# Altium schematic symbol library MHI_Board.SCHLIB: 15 symbols
Pins are listed as number, name and electrical type; pins without a type are passive.

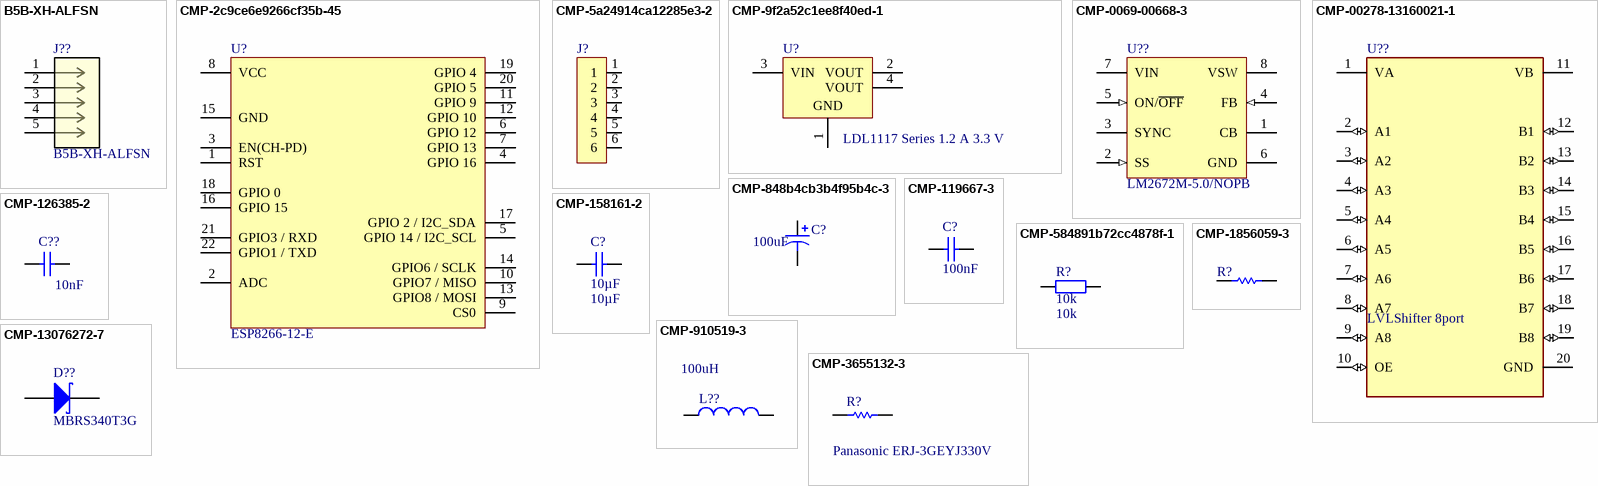
[diagram p0: symbols B5B-XH-ALFSN to CMP-13076272-7]

## B5B-XH-ALFSN
designator J??
No Description Available; Mfr_Name: JST; RefDes: RefDes; Type: Type
footprint CONN_B5B-XH-ALFSN_JST
footprint CONN_B5B-XH-ALFSN_JST
pins: 1, 2, 3, 4, 5

## CMP-2c9ce6e9266cf35b-45
designator U?, comment ESP8266-12-E
ESP8266 SMT MODULE; Manufacturer Part Number: 2491; Octopart URL: https://octopart.com/2491-adafruit+industries-65271392; OctopartID: f2f4381d21f22d33; Color: Black; Material: Nylon; RoHS: Compliant
footprint 2491 (Footprint - Adafruit Industries 2491)
pins: 1 RST, 2 ADC, 3 EN(CH-PD), 4 GPIO 16, 5 GPIO 14 / I2C_SCL, 6 GPIO 12, 7 GPIO 13, 8 VCC (power), 9 CS0, 10 GPIO7 / MISO, 11 GPIO 9, 12 GPIO 10, 13 GPIO8 / MOSI, 14 GPIO6 / SCLK, 15 GND, 16 GPIO 15, 17 GPIO 2 / I2C_SDA, 18 GPIO 0, 19 GPIO 4, 20 GPIO 5, 21 GPIO3 / RXD, 22 GPIO1 / TXD

## CMP-5a24914ca12285e3-2
designator J?, comment TE Connectivity / AMP 5-146280-6  (value not drawn)
AMPMODU 6 Position 2.54 mm Through Hole Single Row Straight Breakaway Header; Gender: Male; Lead-Free Status: Lead Free; Number of Contacts: 6; Pin Pitch: 2.54 mm; Lifecycle Status: Not Listed by Manufacturer; OctopartID: 5a24914ca12285e3; Color: Black; Number of Rows: 1; Contact Plating: Gold; Contact Material: Phosphor Bronze; Manufacturer Part Number: 5-146280-6; Octopart URL: http://octopart.com/5-146280-6-te+connectivity+%2F+amp-40033888; REACH SVHC Compliance: No SVHC; RoHS: Compliant; Number of Positions: 6; Mounting Style: Through Hole, Vertical
footprint PCB-inh0upq8uddmt7lk8pts-1 (Footprint - TE Connectivity / AMP 5-146280-6)
pins: 1, 2, 3, 4, 5, 6

## CMP-9f2a52c1ee8f40ed-1
designator U?, comment LDL1117 Series 1.2 A 3.3 V
High PSRR LDO Linear Voltage Regulator-SOT-223; Operating Temperature: -40.0 °C (min); Lifecycle Status: Not Listed by Manufacturer
footprint PCB-elchkyvpbzx92dsq0s9t-1 (Footprint - STMicroelectronics LDL1117S33R)
pins: 1 GND (power), 2 VOUT (power), 3 VIN (power), 4 VOUT (power)

## CMP-0069-00668-3
designator U??, comment LM2672M-5.0/NOPB
SIMPLE SWITCHER® Power Converter High Efficiency 1A Step-Down Voltage Regulator with Features, 8-pin Narrow SOIC, Pb-Free; Lead-Free Status: Lead Free; Number of Outputs: 1; Output Current: 1.0 A; Output Voltage: 5.0 V; Quiescent Current: 0.0025 A; Switching Frequency: 260000.0 Hz; Topology: Buck; Case/Package: SOIC; Lifecycle Status: Active; Mounting Style: Surface Mount; Number of Pins: 8; Number of Regulated Outputs: 1; Octopart Url: https://octopart.com/lm2672m-5.0%2Fnopb-texas+instruments-24813069; OctopartID: afaf67df14c47068; Packaging: Tube; RoHS: Compliant; Manufacturer Part Number: LM2672M-5.0/NOPB
footprint M08A_L (SOIC, 8-Leads, Body 4.9x3.9mm, Pitch 1.27mm, IPC High Density)
footprint M08A_N (SOIC, 8-Leads, Body 4.9x3.9mm, Pitch 1.27mm, IPC Medium Density)
footprint M08A_M (SOIC, 8-Leads, Body 4.9x3.9mm, Pitch 1.27mm, IPC Low Density)
pins: 1 CB, 2 SS (in), 3 SYNC, 4 FB (in), 5 ON/~{OFF} (in), 6 GND (power), 7 VIN (power), 8 VSW (power)

## CMP-00278-13160021-1
designator U??, comment LVLShifter 8port
LevelShifter, PDIP20; NexarPartId: 13160021; Manufacturer: ON Semiconductor / Fairchild; Manufacturer Part Number: MM74HC688N; Number of Gates: 8; Low Level Output Current: 5.2mA; Number of Circuits: 1; Turn-On Delay Time: 30ns; Propagation Delay: 21ns; Quiescent Current: 8µA; Number of Inputs: 2; Max Supply Voltage: 6V; Polarity: Inverting; Min Supply Voltage: 2V; Max Operating Temperature: 85°C; Ambient Temperature Range High: 85°C; Case/Package: DIP; Number of Channels: 8; RoHS: Compliant; REACH SVHC: No SVHC; Mount: Through Hole; Number of Bits: 8; Lead Free: Lead Free; High Level Output Current: 5.2mA; Min Operating Temperature: -40°C; Number of Pins: 20; Termination: Through Hole; Height: 5.08mm; Number of Outputs: 1
footprint FP-N20A-W
pins: 1 VA (power), 2 A1 (io), 3 A2 (io), 4 A3 (io), 5 A4 (io), 6 A5 (io), 7 A6 (io), 8 A7 (io), 9 A8 (io), 10 OE (io), 11 VB (power), 12 B1 (io), 13 B2 (io), 14 B3 (io), 15 B4 (io), 16 B5 (io), 17 B6 (io), 18 B7 (io), 19 B8 (io), 20 GND (power)

## CMP-848b4cb3b4f95b4c-3
designator C?, comment Capacitance: 100uF  (hidden comment: Panasonic EEE-FT1E101AP)
Capacitor Alum Elec, 100uf, 20%, 25v, Capacitor Alum Elec, 100uf, 20%, 25v, Smd, Full Reel; Equivalent Series Resistance (ESR): 0.26 Ω; Lead-Free Status: Lead Free; Voltage Rating (DC): 25.0 V; Size-Height: 0.0058 m; Capacitance Tolerance: ±20%; Octopart Url: http://octopart.com/eee-ft1e101ap-panasonic-20059412; RoHS: Compliant; Number of Pins: 2; Size-Diameter: 0.0063 m; OctopartID: 848b4cb3b4f95b4c; Manufacturer Part Number: EEE-FT1E101AP; Seller Landing  Url: https://octopart-clicks.com/click/track?country=US&ak=8157f166&sig=02e6b41&sid=2402&ppid=20059412&vpid=64485157&ct=offers; Lifecycle Status: Not Listed by Manufacturer
footprint ELECTRO-SMD-D-5.6MM
pins: 1 +, 2 -

## CMP-119667-3
designator C?, comment 100nF
CAP CER 0.1UF 50V 10% X7R 0603; Lead-Free Status: Lead Free; Voltage Rating (DC): 50.0 V; Capacitance: 100nF; Capacitance Tolerance: ±10%; Dielectric Characteristic: X7R; Octopart Url: https://octopart.com/gcm188r71h104ka57d-murata-7894792; OctopartID: 3480fdf266eeeb47; Packaging: Cut Tape (CT); REACH SVHC Compliance: No SVHC; RoHS: Compliant
footprint CAPC1608X90X35LL10T15
footprint CAPC1608X90X35NL10T15
footprint CAPC1608X90X35ML10T15
pins: 1, 2
1 alternate drawing of the same symbol

## CMP-126385-2
designator C??, comment Capacitance: 10nF  (hidden comment: AVX Interconnect / Elco 08051C103KAZ2A)
CAP CER 10000PF 100V X7R 0805; Capacitance Tolerance: ±10%; Case/Package (SI): 2012; Dielectric Material: Ceramic Multilayer; Lead-Free Status: Lead Free; Voltage Rating (DC): 100.0 V; Manufacturer Part Number: 08051C103KAZ2A; Case/Package: 0805; Dielectric Characteristic: X7R; Mounting Style: Surface Mount; Number of Pins: 2; Octopart Url: https://octopart.com/08051c103kaz2a-avx+interconnect+%2F+elco-195629; OctopartID: 0499cd91ddd2db5e; REACH SVHC Compliance: No SVHC; RoHS: Compliant; Size-Height: 0.00094 m; Size-Length: 0.00201 m; Size-Width: 0.00125 m
footprint CAPC2013X94X50ML20T25
footprint CAPC2013X94X50NL20T25
footprint CAPC2013X94X50LL20T25
pins: 1, 2
1 alternate drawing of the same symbol

## CMP-158161-2
designator C?, comment 10µF
Cap Ceramic 10uF 6.3V X5R 20% SMD 0805 85C Plastic T/R; Lead-Free Status: Lead Free; Capacitance: 10µF; Capacitance Tolerance: ±20%; Case/Package: 0805; Dielectric Characteristic: X5R; Dielectric Material: Ceramic; Mounting Style: Surface Mount; Octopart Url: https://octopart.com/c0805c106m9pactu-kemet-3666789; OctopartID: eb3c22013d3f34fb; Packaging: Cut Tape (CT); RoHS: Compliant; Voltage Rating (DC): 6.3 V
footprint CAPC2013X145X50ML20T25
footprint CAPC2013X145X50NL20T25
footprint CAPC2013X145X50LL20T25
pins: 1, 2
1 alternate drawing of the same symbol

## CMP-584891b72cc4878f-1
designator R?, comment 10k
Resistor; Thick Film; Res 10 Kilohms; Pwr-Rtg 0.1 W; Tol 1%; SMT; 0603; Manufacturer Part Number: CRG0603F10K; ELV Compliant: Compliant; Power Rating: 0.1 W; OctopartID: 584891b72cc4878f; Case/Package: 0603; RoHS: Compliant; Mounting Style: Surface Mount; Lifecycle Status: Active; Octopart URL: http://octopart.com/crg0603f10k-te+connectivity-16077290; Packaging: Tape & Reel (TR); Resistance: 10k
footprint RESC1609X50X30ML10T20
pins: 1, 2

## CMP-910519-3
designator L??, comment Inductance: 100uH  (hidden comment: TDK SLF7045T-101MR50-PF)
INDUCTOR SHIELD PWR 100UH 7045; Resistance: 0.25 Ω; Resistance Tolerance: ±20%; Shielding: Yes; Lead-Free Status: Lead Free; Manufacturer Part Number: SLF7045T-101MR50-PF; Number of Pins: 2; OctopartID: d5581c57170e0a9f; Size-Width: 0.007 m; Size-Height: 0.0045 m; Octopart Url: https://octopart.com/slf7045t-101mr50-pf-tdk-386864; RoHS: Compliant; Mounting Style: Surface Mount; Size-Length: 0.007 m; REACH SVHC Compliance: No SVHC
footprint PCB-910519-1 (Footprint - TDK SLF7045T-101MR50-PF)
pins: 1, 2

## CMP-1856059-3
designator R?, comment Vishay Dale CRCW060333R0JNEA  (value not drawn)
RES SMD 33 OHM 5% 1/10W 0603; Brand: Vishay / Dale; Case Height: 0.45 mm; CiivaID: 1856059; Temperature Coefficient: 200 PPM / K; Case Width: 0.85 mm; Unit Weight: 0.000071 oz; Power Rating: 100 mW; Resistance: 33 Ohms; Case Length: 1.55 mm; Voltage Rating: 75 V; Product: Thick Film Resistors SMD; RoHS: Details; Manufacturer: Vishay; Tolerance: 5 %; Dimensions: 0.85 mm W x 1.55 mm L x 0.45 mm H; Packaging: Reel; Termination Style: SMD/SMT; Series: CRCW; Case Code - in: 0603; Manufacturer Part Number: CRCW060333R0JNEA; Ciiva URL: https://ciiva.com/part/crcw060333r0jnea-1856059; Case Code - mm: 1608; Product Category: Thick Film Resistors - SMD; Operating Temperature Range: - 55 C to + 155 C; Package / Case: 0603 (1608 metric); Factory Pack Quantity: 5000
footprint RESC1609X50X30NL10T20
footprint RESC1609X50X30LL10T20
footprint RESC1609X50X30ML10T20
pins: 1, 2
1 alternate drawing of the same symbol

## CMP-3655132-3
designator R?, comment Panasonic ERJ-3GEYJ330V
Thick Film Resistors - SMD 0603 33ohms 5% Tol; Resistance: 33.0 Ω; Lead-Free Status: Lead Free; Power Rating: 0.1 W; Voltage Rating (DC): 75.0 V; RoHS: Compliant; Lifecycle Status: Not Listed by Manufacturer; Size-Width: 0.0008 m; Manufacturer Part Number: ERJ-3GEYJ330V; Packaging: Cut Tape (CT); Octopart Url: https://octopart.com/erj-3geyj330v-panasonic-55422078; REACH SVHC Compliance: No SVHC; Size-Height: 0.00045 m; OctopartID: c8d6029141ce1711; Mounting Style: Surface Mount; Case/Package: 0603; Resistance Tolerance: ±5%; Size-Length: 0.0016 m
footprint RESC1608 short (Footprint - Panasonic ERJ-3GEYJ330V)
footprint RESC1608X55X30ML15T15
footprint RESC1608X55X30NL15T15
simulation model SIM-qixym5m1i3jwegxd6sze-1 (Sim Model - Panasonic ERJ-3GEYJ330V)
footprint RESC1608X55X30LL15T15
pins: 1, 2
1 alternate drawing of the same symbol

## CMP-13076272-7
designator D??, comment Manufacturer Part Number: MBRS340T3G  (hidden comment: ON Semiconductor MBRS340T-3G)
ON Semiconductor; Current Rating: 3.0 A; Forward Voltage: 0.525 V; Output Current: A; Polarity: Standard; Lead-Free Status: Lead Free; Voltage Rating (DC): 40.0 V; Number of Pins: 2; Lifecycle Status: Active; Packaging: Cut Tape (CT), Tape & Reel (TR); Mounting Style: Surface Mount; OctopartID: e0522958cf223f95; RoHS: Compliant; Octopart URL: http://octopart.com/mbrs340t3g-on+semiconductor-2582; REACH SVHC Compliance: No SVHC; Halogen Free Status: Halogen Free; Case/Package: SMC
footprint ONSC-SMC_AP419
pins: 1 C, 2 A